# EAGLE library part TDA3810 (library Audio-Power-amlifier V.2.0)
The TDA3810 integrated circuit provides spatial, stereo and pseudo-stereo sound for radio and television equipment.
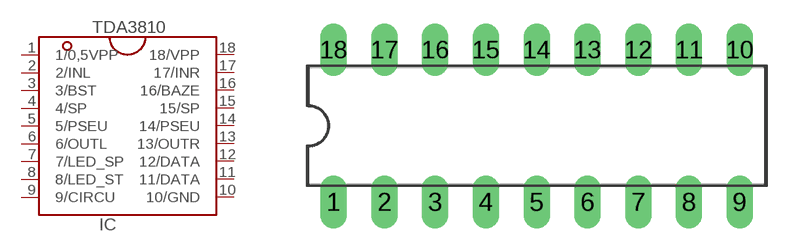
[diagram p252: symbol with the pads of DIL18; footprint DIL18]

Designator prefix IC

## TDA3810  [DIL18]
1  1/0,5VPP  pwr
2  2/INL  in
3  3/BST
4  4/SP
5  5/PSEU
6  6/OUTL  out
7  7/LED_SP  out
8  8/LED_ST  out
9  9/CIRCU
10  10/GND  pwr
11  11/DATA  in
12  12/DATA  in
13  13/OUTR  out
14  14/PSEU  in
15  15/SP
16  16/BAZE
17  17/INR  in
18  18/VPP  pwr

## Footprint DIL18 (pad centres in mm)
Dual In Line Package
drill 0.813 long: 1 -10.16,-3.81; 2 -7.62,-3.81; 3 -5.08,-3.81; 4 -2.54,-3.81; 5 0,-3.81; 6 2.54,-3.81; 7 5.08,-3.81; 8 7.62,-3.81; 9 10.16,-3.81; 10 10.16,3.81; 11 7.62,3.81; 12 5.08,3.81; 13 2.54,3.81; 14 0,3.81; 15 -2.54,3.81; 16 -5.08,3.81; 17 -7.62,3.81; 18 -10.16,3.81